# Altium footprint library Jump_2.0.PcbLib: 39 footprints (part 2 of 3)
Each footprint in its own frame and in the unit in brackets; x right, y up, seen from the top. Pads: shape width x height; smd on the part's side, far side on the other; paste and mask are expansions set on the pad; w line width, h text height; cw(c..) or ccw(c..) is an arc to the next point about the centre after c.
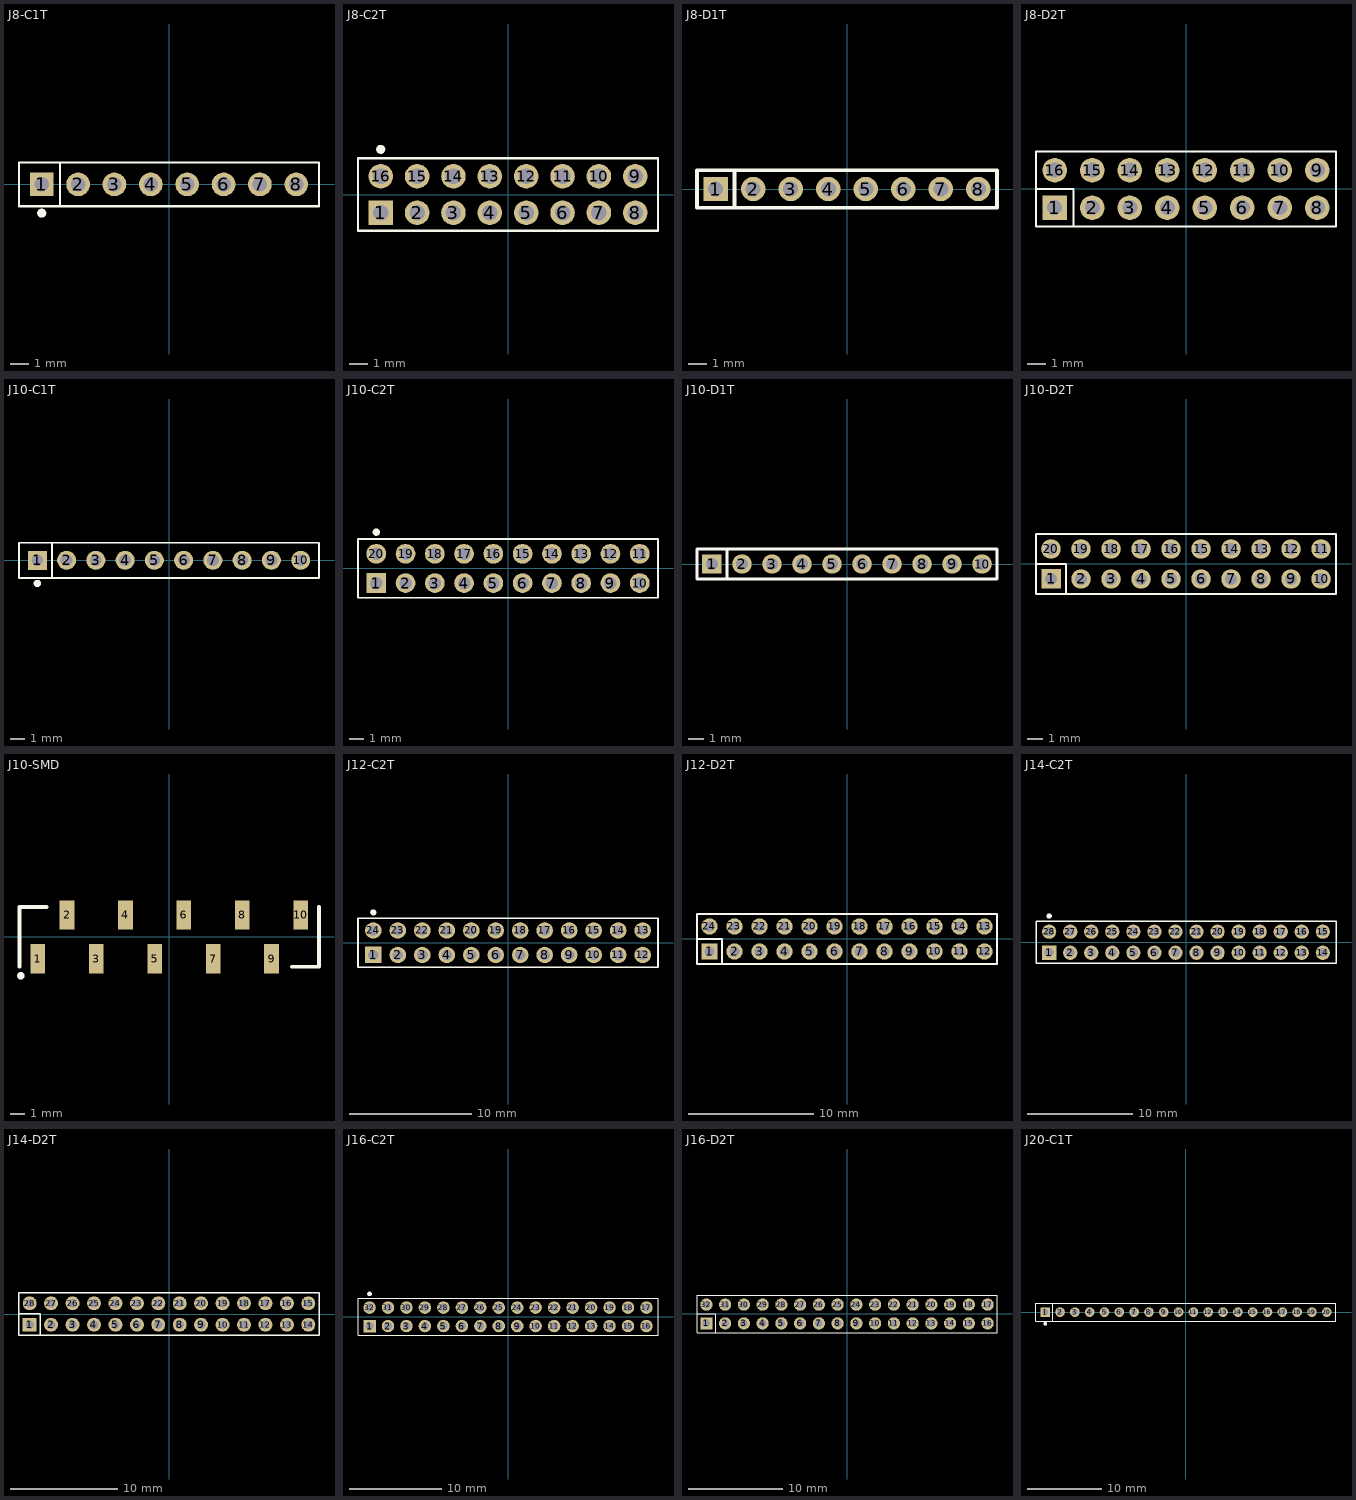
[diagram p1: the footprints below, top view; thin cyan lines are the x and y axes]

## J8-C1T [mm] "8p, 1 row, straight, gold plating"
height 4.3
pads (8):
  rect 1.3x1.3 hole 0.8: 1(-7,0)
  round 1.3 hole 0.8: 2(-5,0) 3(-3,0) 4(-1,0) 5(1,0) 6(3,0) 7(5,0) 8(7,0)
Top Overlay:
  circle w0.25: c-7,-1.582 r0.125
  lines w0.127: -6,-1.2 -6,1.2 ; -8.25,-1.2 8.25,-1.2 8.25,1.2 -8.25,1.2 -8.25,-1.2
3D body "62000811821.stp": height 4.31, standoff -2.39, extent -8.25,-1.2 8.25,1.2

## J8-C2T [mm] "16 pins, dual row, straight, gold plating"
height 4.3
pads (16):
  rect 1.35x1.35 hole 0.85: 1(-7,-1)
  round 1.35 hole 0.85: 2(-5,-1) 3(-3,-1) 4(-1,-1) 5(1,-1) 6(3,-1) 7(5,-1) 8(7,-1) 9(7,1) 10(5,1) 11(3,1) 12(1,1) 13(-1,1) 14(-3,1) 15(-5,1) 16(-7,1)
Top Overlay:
  circle w0.25: c-7,2.482 r0.125
  lines w0.127: -8.25,-2 -8.25,2 8.25,2 8.25,-2 -8.25,-2
3D body "62001621821.stp": height 4.31, standoff -2.39, extent -8.25,-2 8.25,2

## J8-D1T [mm] "8 pins, 1 row, straight, gold plating"
height 6
pads (8):
  rect 1.3x1.3 hole 0.8: 1(-7,0)
  round 1.3 hole 0.8: 2(-5,0) 3(-3,0) 4(-1,0) 5(1,0) 6(3,0) 7(5,0) 8(7,0)
Top Overlay:
  lines w0.2: -6,-1 -6,1 ; -8,-1 8,-1 8,1 -8,1 -8,-1
3D body "62000811121.stp": height 6.01, standoff -2.79, extent -8,-1 8,1

## J8-D2T [mm] "16 pins, dual row, straight, gold plating"
height 6
pads (16):
  rect 1.3x1.3 hole 0.8: 1(-7,-1)
  round 1.3 hole 0.8: 2(-5,-1) 3(-3,-1) 4(-1,-1) 5(1,-1) 6(3,-1) 7(5,-1) 8(7,-1) 9(7,1) 10(5,1) 11(3,1) 12(1,1) 13(-1,1) 14(-3,1) 15(-5,1) 16(-7,1)
Top Overlay:
  lines w0.127: -8,0 -6,0 -6,-2 ; -8,-2 -8,2 8,2 8,-2 -8,-2
3D body "62001621121.stp": height 6.01, standoff -2.79, extent -8,-2 8,2

## J10-C1T [mm] "10p, 1 row, straight, gold plating"
height 4.3
pads (10):
  rect 1.3x1.3 hole 0.8: 1(-9,0)
  round 1.3 hole 0.8: 2(-7,0) 3(-5,0) 4(-3,0) 5(-1,0) 6(1,0) 7(3,0) 8(5,0) 9(7,0) 10(9,0)
Top Overlay:
  circle w0.25: c-9,-1.582 r0.125
  lines w0.127: -8,-1.2 -8,1.2 ; -10.25,-1.2 -10.25,1.2 10.25,1.2 10.25,-1.2 -10.25,-1.2
3D body "62001011821.stp": height 4.31, standoff -2.39, extent -10.25,-1.2 10.25,1.2

## J10-C2T [mm] "20 pins, dual row, straight, gold plating"
height 4.3
pads (20):
  rect 1.35x1.35 hole 0.85: 1(-9,-1)
  round 1.35 hole 0.85: 2(-7,-1) 3(-5,-1) 4(-3,-1) 5(-1,-1) 6(1,-1) 7(3,-1) 8(5,-1) 9(7,-1) 10(9,-1) 11(9,1) 12(7,1) 13(5,1) 14(3,1) 15(1,1) 16(-1,1) 17(-3,1) 18(-5,1) 19(-7,1) 20(-9,1)
Top Overlay:
  circle w0.25: c-9,2.482 r0.125
  lines w0.127: -10.25,-2 -10.25,2 10.25,2 10.25,-2 -10.25,-2
3D body "62002021821.stp": height 4.31, standoff -2.39, extent -10.25,-2 10.25,2

## J10-D1T [mm] "10 pins, 1 row, straight, gold plating"
height 6
pads (10):
  rect 1.3x1.3 hole 0.8: 1(-9,0)
  round 1.3 hole 0.8: 2(-7,0) 3(-5,0) 4(-3,0) 5(-1,0) 6(1,0) 7(3,0) 8(5,0) 9(7,0) 10(9,0)
Top Overlay:
  lines w0.2: -8,-1 -8,1 ; -10,-1 10,-1 10,1 -10,1 -10,-1
3D body "62001011121.stp": height 6.01, standoff -2.79, extent -10,-1 10,1

## J10-D2T [mm] "20 pins, dual row, straight, gold plating"
height 6
pads (20):
  rect 1.3x1.3 hole 0.8: 1(-9,-1)
  round 1.3 hole 0.8: 2(-7,-1) 3(-5,-1) 4(-3,-1) 5(-1,-1) 6(1,-1) 7(3,-1) 8(5,-1) 9(7,-1) 10(9,-1) 11(9,1) 12(7,1) 13(5,1) 14(3,1) 15(1,1) 16(-1,1) 17(-3,1) 18(-5,1) 19(-7,1) 20(-9,1)
Top Overlay:
  lines w0.127: -10,0 -8,0 -8,-2 ; -10,-2 10,-2 10,2 -10,2 -10,-2
3D body "62002021121.stp": height 6.01, standoff -2.79, extent -10,-2 10,2

## J10-SMD [mm]
pads (10):
  rect 1x2 smd: 1(-9,-1.5) 2(-7,1.5) 3(-5,-1.5) 4(-3,1.5) 5(-1,-1.5) 6(1,1.5) 7(3,-1.5) 8(5,1.5) 9(7,-1.5) 10(9,1.5)
Top Overlay:
  circle w0.254: c-10.16,-2.667 r0.127
  lines w0.254: -10.25,-2.05 -10.25,2.05 -8.382,2.05 ; 8.382,-2.05 10.25,-2.05 10.25,2.05
3D body "female_header_a-bl200-eg-g10mp1.stp": height 4.5, standoff 0, extent -10.25,-2.05 10.25,2.05

## J12-C2T [mm] "24 pins, dual row, straight, gold plating"
height 4.3
pads (24):
  rect 1.35x1.35 hole 0.85: 1(-11,-1)
  round 1.35 hole 0.85: 2(-9,-1) 3(-7,-1) 4(-5,-1) 5(-3,-1) 6(-1,-1) 7(1,-1) 8(3,-1) 9(5,-1) 10(7,-1) 11(9,-1) 12(11,-1) 13(11,1) 14(9,1) 15(7,1) 16(5,1) 17(3,1) 18(1,1) 19(-1,1) 20(-3,1) 21(-5,1) 22(-7,1) 23(-9,1) 24(-11,1)
Top Overlay:
  circle w0.25: c-11,2.482 r0.125
  lines w0.127: -12.25,-2 12.25,-2 12.25,2 -12.25,2 -12.25,-2
3D body "62002421821.stp": height 4.31, standoff -2.39, extent -12.25,-2 12.25,2

## J12-D2T [mm] "24 pins, dual row, straight, gold plating"
height 6
pads (24):
  rect 1.3x1.3 hole 0.8: 1(-11,-1)
  round 1.3 hole 0.8: 2(-9,-1) 3(-7,-1) 4(-5,-1) 5(-3,-1) 6(-1,-1) 7(1,-1) 8(3,-1) 9(5,-1) 10(7,-1) 11(9,-1) 12(11,-1) 13(11,1) 14(9,1) 15(7,1) 16(5,1) 17(3,1) 18(1,1) 19(-1,1) 20(-3,1) 21(-5,1) 22(-7,1) 23(-9,1) 24(-11,1)
Top Overlay:
  lines w0.127: -12,0 -10,0 -10,-2 ; -12,-2 -12,2 12,2 12,-2 -12,-2
3D body "62002421121.stp": height 6.01, standoff -2.79, extent -12,-2 12,2

## J14-C2T [mm] "28 pins, dual row, straight, gold plating"
height 4.3
pads (28):
  rect 1.35x1.35 hole 0.85: 1(-13,-1)
  round 1.35 hole 0.85: 2(-11,-1) 3(-9,-1) 4(-7,-1) 5(-5,-1) 6(-3,-1) 7(-1,-1) 8(1,-1) 9(3,-1) 10(5,-1) 11(7,-1) 12(9,-1) 13(11,-1) 14(13,-1) 15(13,1) 16(11,1) 17(9,1) 18(7,1) 19(5,1) 20(3,1) 21(1,1) 22(-1,1) 23(-3,1) 24(-5,1) 25(-7,1) 26(-9,1) 27(-11,1) 28(-13,1)
Top Overlay:
  circle w0.25: c-13,2.482 r0.125
  lines w0.127: -14.25,-2 -14.25,2 14.25,2 14.25,-2 -14.25,-2
3D body "62002821821.stp": height 4.31, standoff -2.39, extent -14.25,-2 14.25,2

## J14-D2T [mm] "28 pins, dual row, straight, gold plating"
height 6
pads (28):
  rect 1.3x1.3 hole 0.8: 1(-13,-1)
  round 1.3 hole 0.8: 2(-11,-1) 3(-9,-1) 4(-7,-1) 5(-5,-1) 6(-3,-1) 7(-1,-1) 8(1,-1) 9(3,-1) 10(5,-1) 11(7,-1) 12(9,-1) 13(11,-1) 14(13,-1) 15(13,1) 16(11,1) 17(9,1) 18(7,1) 19(5,1) 20(3,1) 21(1,1) 22(-1,1) 23(-3,1) 24(-5,1) 25(-7,1) 26(-9,1) 27(-11,1) 28(-13,1)
Top Overlay:
  lines w0.127: -14,0 -12,0 -12,-2 ; -14,-2 14,-2 14,2 -14,2 -14,-2
3D body "62002821121.stp": height 6.01, standoff -2.79, extent -14,-2 14,2

## J16-C2T [mm] "32 pins, dual row, straight, gold plating"
height 4.3
pads (32):
  rect 1.35x1.35 hole 0.85: 1(-15,-1)
  round 1.35 hole 0.85: 2(-13,-1) 3(-11,-1) 4(-9,-1) 5(-7,-1) 6(-5,-1) 7(-3,-1) 8(-1,-1) 9(1,-1) 10(3,-1) 11(5,-1) 12(7,-1) 13(9,-1) 14(11,-1) 15(13,-1) 16(15,-1) 17(15,1) 18(13,1) 19(11,1) 20(9,1) 21(7,1) 22(5,1) 23(3,1) 24(1,1) 25(-1,1) 26(-3,1) 27(-5,1) 28(-7,1) 29(-9,1) 30(-11,1) 31(-13,1) 32(-15,1)
Top Overlay:
  circle w0.25: c-15,2.482 r0.125
  lines w0.127: -16.25,-2 -16.25,2 16.25,2 16.25,-2 -16.25,-2
3D body "62003221821.stp": height 4.31, standoff -2.39, extent -16.25,-2 16.25,2

## J16-D2T [mm] "32 pins, dual row, straight, gold plating"
height 6
pads (32):
  rect 1.3x1.3 hole 0.8: 1(-15,-1)
  round 1.3 hole 0.8: 2(-13,-1) 3(-11,-1) 4(-9,-1) 5(-7,-1) 6(-5,-1) 7(-3,-1) 8(-1,-1) 9(1,-1) 10(3,-1) 11(5,-1) 12(7,-1) 13(9,-1) 14(11,-1) 15(13,-1) 16(15,-1) 17(15,1) 18(13,1) 19(11,1) 20(9,1) 21(7,1) 22(5,1) 23(3,1) 24(1,1) 25(-1,1) 26(-3,1) 27(-5,1) 28(-7,1) 29(-9,1) 30(-11,1) 31(-13,1) 32(-15,1)
Top Overlay:
  lines w0.127: -16,0 -14,0 -14,-2 ; -16,-2 16,-2 16,2 -16,2 -16,-2
3D body "62003221121.stp": height 6.01, standoff -2.79, extent -16,-2 16,2

## J20-C1T [mm] "20p, 1 row, straight, gold plating"
height 4.3
pads (20):
  rect 1.3x1.3 hole 0.8: 1(-19,0)
  round 1.3 hole 0.8: 2(-17,0) 3(-15,0) 4(-13,0) 5(-11,0) 6(-9,0) 7(-7,0) 8(-5,0) 9(-3,0) 10(-1,0) 11(1,0) 12(3,0) 13(5,0) 14(7,0) 15(9,0) 16(11,0) 17(13,0) 18(15,0) 19(17,0) 20(19,0)
Top Overlay:
  circle w0.25: c-19,-1.582 r0.125
  lines w0.127: -18,-1.2 -18,1.2 ; -20.25,-1.2 -20.25,1.2 20.25,1.2 20.25,-1.2 -20.25,-1.2
3D body "62002011821.stp": height 4.31, standoff -2.39, extent -20.25,-1.2 20.25,1.2